# EAGLE library part DIL18-SMD (library custom-ic-package)
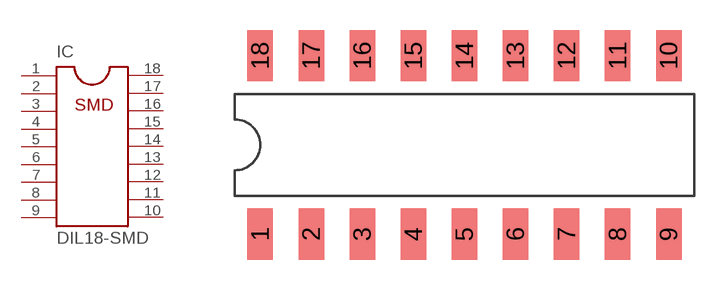
[diagram p23: symbol with the pads of DIL18-SMD; footprint DIL18-SMD]

Designator prefix IC

## DIL18-SMD  [DIL18-SMD]
1  P$1
2  P$2
3  P$3
4  P$4
5  P$5
6  P$6
7  P$7
8  P$8
9  P$9
10  P$10
11  P$11
12  P$12
13  P$13
14  P$14
15  P$15
16  P$16
17  P$17
18  P$18

## Footprint DIL18-SMD (pad centres in mm)
smd 1.27 x 2.54: 1 -10.16,-4.445; 2 -7.62,-4.445; 3 -5.08,-4.445; 4 -2.54,-4.445; 5 0,-4.445; 6 2.54,-4.445; 7 5.08,-4.445; 8 7.62,-4.445; 9 10.16,-4.445; 10 10.16,4.445; 11 7.62,4.445; 12 5.08,4.445; 13 2.54,4.445; 14 0,4.445; 15 -2.54,4.445; 16 -5.08,4.445; 17 -7.62,4.445; 18 -10.16,4.445